# EAGLE library part PIC24F08KL200 (library microchip_2022)
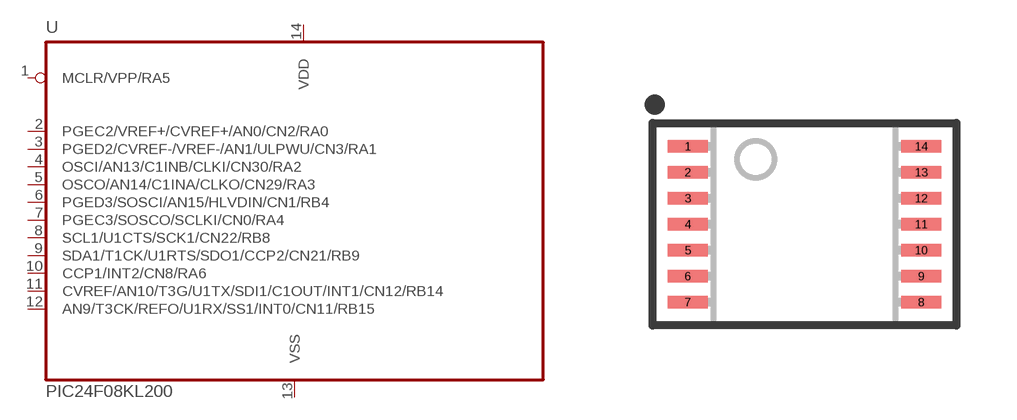
[diagram p0: symbol with the pads of TSSOP14; footprint TSSOP14]

Designator prefix U

## PIC24F08KL200I-S/P  [TSSOP14]
1  MCLR/VPP/RA5  in
2  PGEC2/VREF+/CVREF+/AN0/CN2/RA0
3  PGED2/CVREF-/VREF-/AN1/ULPWU/CN3/RA1
4  OSCI/AN13/C1INB/CLKI/CN30/RA2
5  OSCO/AN14/C1INA/CLKO/CN29/RA3
6  PGED3/SOSCI/AN15/HLVDIN/CN1/RB4
7  PGEC3/SOSCO/SCLKI/CN0/RA4
8  SCL1/U1CTS/SCK1/CN22/RB8
9  SDA1/T1CK/U1RTS/SDO1/CCP2/CN21/RB9
10  CCP1/INT2/CN8/RA6
11  CVREF/AN10/T3G/U1TX/SDI1/C1OUT/INT1/CN12/RB14
12  AN9/T3CK/REFO/U1RX/SS1/INT0/CN11/RB15
13  VSS  pwr
14  VDD  pwr

## Footprint TSSOP14 (pad centres in mm)
smd 0.991 x 0.305: 1 -2.918,1.95; 2 -2.918,1.3; 3 -2.918,0.65; 4 -2.918,0; 5 -2.918,-0.65; 6 -2.918,-1.3; 7 -2.918,-1.95; 8 2.918,-1.95; 9 2.918,-1.3; 10 2.918,-0.65; 11 2.918,0; 12 2.918,0.65; 13 2.918,1.3; 14 2.918,1.95